# EAGLE library part LIS33DE (library ST Microelctronics_By_element14_Batch_1)
MEMS motion sensor
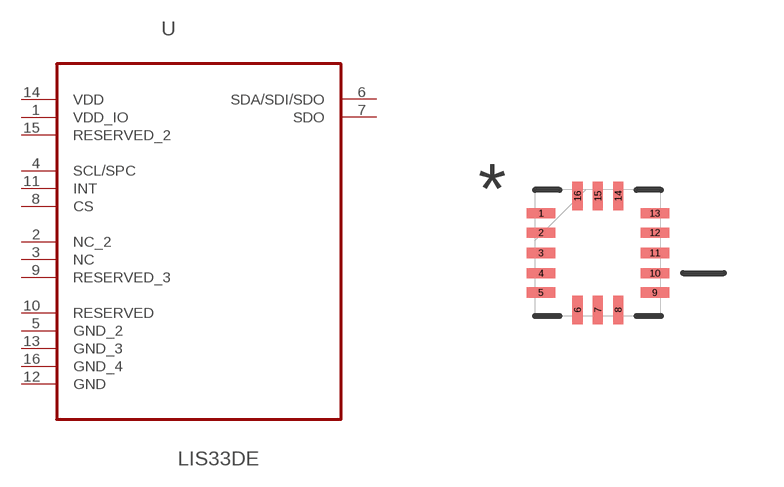
[diagram p79: symbol with the pads of LGA16R50P3X5_300X300X100; footprint LGA16R50P3X5_300X300X100]

Designator prefix U

## LIS33DE (MPN: LIS33DE; OC_FARNELL: 1838528; OC_NEWARK: 56P7985; PACKAGE: LGA-16; SUPPLIER: STMicroelectronics)  [LGA16R50P3X5_300X300X100]
1  VDD_IO  pwr
2  NC_2  nc
3  NC  nc
4  SCL/SPC  in
5  GND_2  pas
6  SDA/SDI/SDO
7  SDO  out
8  CS  in
9  RESERVED_3  nc
10  RESERVED  pas
11  INT  in
12  GND  pas
13  GND_3  pas
14  VDD  pwr
15  RESERVED_2  pwr
16  GND_4  pas

## Footprint LGA16R50P3X5_300X300X100 (pad centres in mm)
smd 0.711 x 0.254: 1 -1.422,0.991; 2 -1.422,0.508; 3 -1.422,0; 4 -1.422,-0.508; 5 -1.422,-0.991; 9 1.422,-0.991; 10 1.422,-0.508; 11 1.422,0; 12 1.422,0.508; 13 1.422,0.991
smd 0.254 x 0.711: 6 -0.508,-1.422; 7 0,-1.422; 8 0.508,-1.422; 14 0.508,1.422; 15 0,1.422; 16 -0.508,1.422